# Altium footprint library FIL_SU9V-07010.PcbLib: 1 footprints
Each footprint in its own frame and in the unit in brackets; x right, y up, seen from the top. Pads: shape width x height; smd on the part's side, far side on the other; paste and mask are expansions set on the pad; w line width, h text height; cw(c..) or ccw(c..) is an arc to the next point about the centre after c.
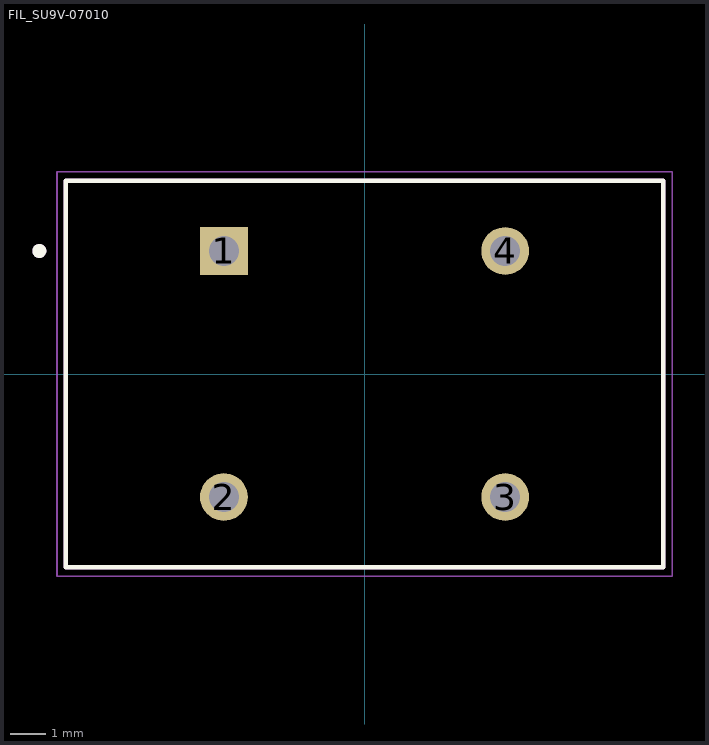
[diagram p0: the footprint, top view; thin cyan lines are the x and y axes]

## FIL_SU9V-07010 [mm]
height 17
pads (4):
  rect 1.358x1.358 / inner round 1.358 / far side rect 1.358x1.358 hole 0.85: 1(-4,3.5)
  round 1.358 hole 0.85: 2(-4,-3.5) 3(4,-3.5) 4(4,3.5)
Top Overlay:
  circle w0.2: c-9.25,3.5 r0.1
  lines w0.127: -8.5,-5.5 -8.5,5.5 8.5,5.5 8.5,-5.5 -8.5,-5.5
Mechanical 13:
  circle w0.2: c-9.25,3.5 r0.1
  lines w0.127: -8.5,-5.5 -8.5,5.5 8.5,5.5 8.5,-5.5 -8.5,-5.5
Mechanical 15:
  lines w0.05: -8.75,-5.75 8.75,-5.75 8.75,5.75 -8.75,5.75 -8.75,-5.75